# Altium footprint library EEC-325X4B-E016.PcbLib: 2 footprints
Each footprint in its own frame and in the unit in brackets; x right, y up, seen from the top. Pads: shape width x height; smd on the part's side, far side on the other; paste and mask are expansions set on the pad; w line width, h text height; cw(c..) or ccw(c..) is an arc to the next point about the centre after c.
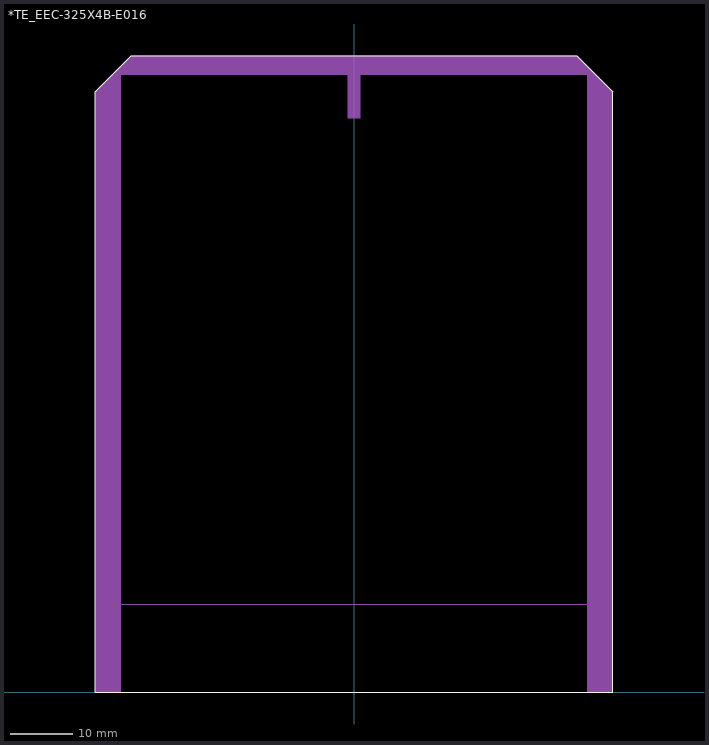
[diagram p0: the footprints below, top view; thin cyan lines are the x and y axes]

## *TE_EEC-325X4B-E016 [mm]
Top Overlay:
  lines w0.127: -41.275,0 -41.275,95.885 -35.56,101.6 35.56,101.6 41.275,95.885 41.275,0 -41.275,0
Mechanical 4:
  region: -41.275,0 -37.275,0 -37.275,98.6 -1,98.6 -1,91.6 1,91.6 1,98.6 37.275,98.6 37.275,0 41.275,0 41.275,95.885 35.56,101.6 -35.56,101.6 -41.275,95.885
  region: -41.275,0 -37.275,0 -37.275,98.6 -1,98.6 -1,91.6 1,91.6 1,98.6 37.275,98.6 37.275,0 41.275,0 41.275,95.885 35.56,101.6 -35.56,101.6 -41.275,95.885
  lines w0.127: -41.275,14 41.275,14 -41.275,14
  text "Front End Connector Area" at -9.303,6.252 h1.88
  text "Front End Connector Area" at -9.303,6.252 h1.88
Mechanical 16:
  region: -41.275,0 -37.275,0 -37.275,98.6 37.275,98.6 37.275,0 41.275,0 41.275,95.885 35.56,101.6 -35.56,101.6 -41.275,95.885

## PCBComponent_1 [mm]